# Altium footprint library Capatitor.PcbLib: 27 footprints (part 2 of 2)
Each footprint in its own frame and in the unit in brackets; x right, y up, seen from the top. Pads: shape width x height; smd on the part's side, far side on the other; paste and mask are expansions set on the pad; w line width, h text height; cw(c..) or ccw(c..) is an arc to the next point about the centre after c.
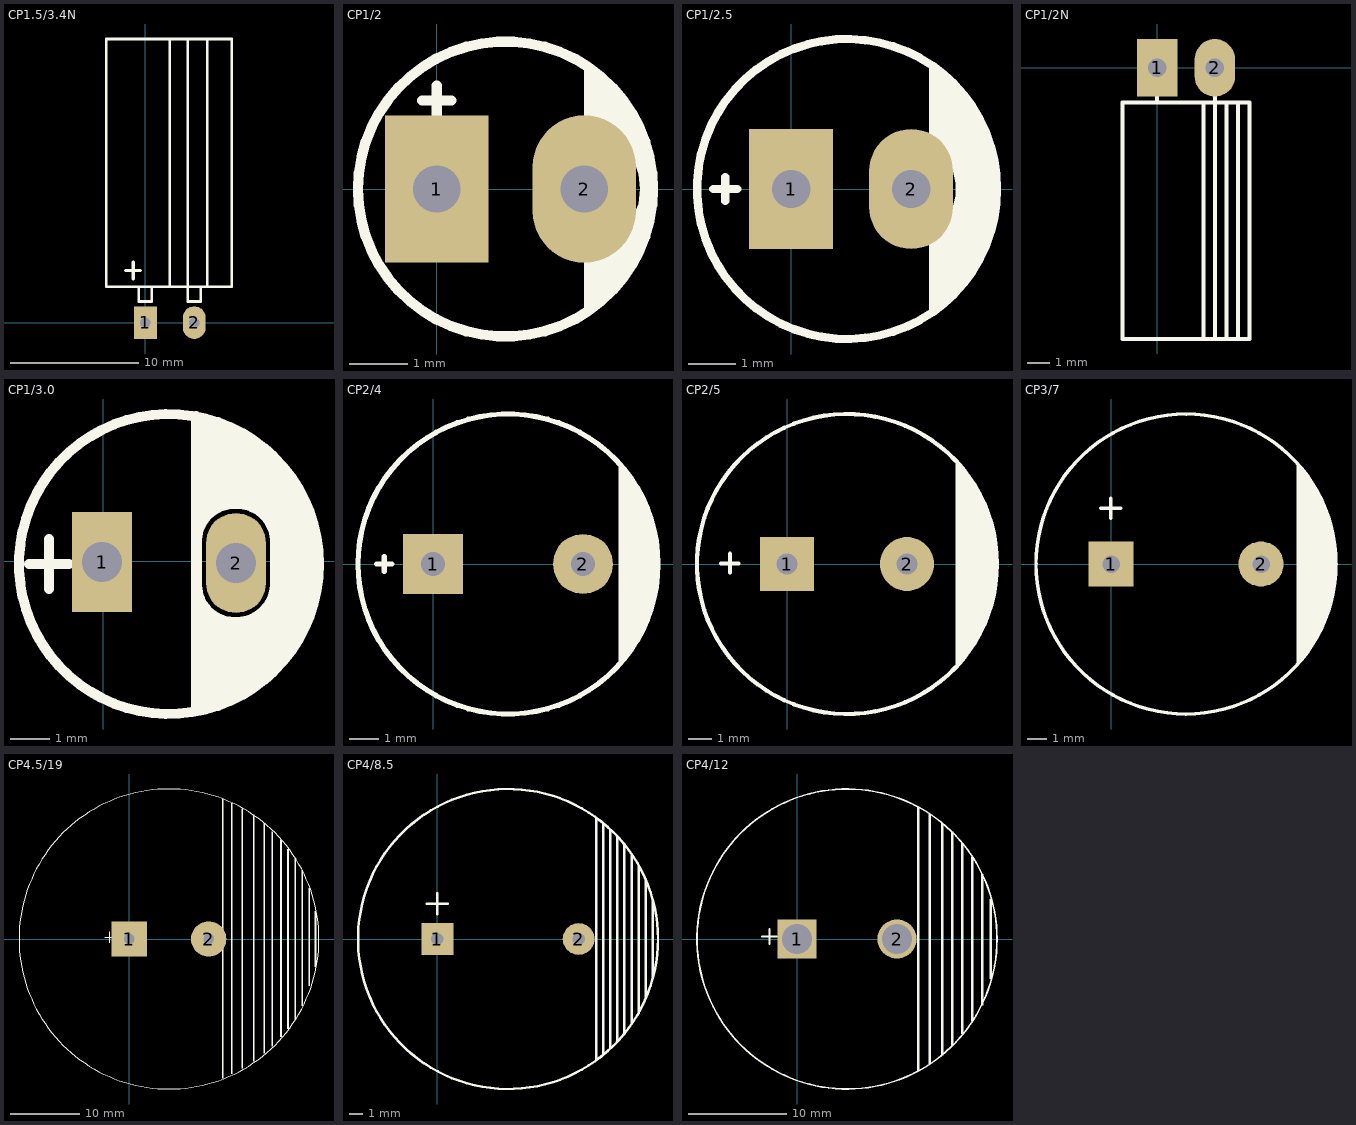
[diagram p1: the footprints below, top view; thin cyan lines are the x and y axes]

## CP1.5/3.4N [mil] "Tu hoa 220->470uF,16V, 470uF/16V,25V"
height 300
pads (2):
  rect 70x100 hole 32: 1(0,0)
  oval 70x100 hole 32: 2(150,0)
Top Overlay:
  lines w8: -20,110 -20,65 20,65 20,105 ; 75,110 75,870 ; 130,870 130,110 130,65 170,65 170,105 ; 190,110 190,870 ; -120,110 265,110 265,870 -120,870 -120,110
  lines w10: -60,160 -15,160 ; -37,135 -37,185

## CP1/2 [mil]
height 200
pads (2):
  rect 70x100 hole 32: 1(0,0)
  oval 70x100 hole 32: 2(100,0)
Top Overlay:
  circle w7: c46.58,0 r100
  region: 100,84 100,38 112,36 122,32 129,27 134,19 137,10 138,0 137,-10 134,-17 129,-24 123,-31 117,-35 107,-38 100,-38 100,-85 108,-78 120,-69 128,-59 137,-44 144,-19 146,9 139,40 127,60 110,79
  lines w7: -10,60 10,60 ; 0,50 0,70
3D body "User Library-Cap electro 5x7x2mm.STEP": height 296.28, standoff -128.81, extent -54.43,-98.85 144.43,100

## CP1/2.5 [mil] "Tu hoa 33 >100 uF,50V, 220uF/16V,25V"
height 300
pads (2):
  rect 70x100 hole 32: 1(0,0)
  oval 70x100 hole 32: 2(100,0)
Top Overlay:
  circle w7: c46.58,0 r125
  region: 115,105 115,36 122,31 129,25 133,20 135,15 137,5 137,-6 135,-14 132,-19 128,-24 124,-28 120,-31 115,-34 115,-107 124,-99 139,-86 152,-69 167,-36 171,-15 171.58,0 167,30 153,67 131,93
  lines w7: -65,0 -45,0 ; -55,-10 -55,-5 -55,5 -55,10
3D body "User Library-Cap 6_3x11.STEP": height 421.54, standoff -759.57, extent -76,-124.03 172.03,124

## CP1/2N [mil] "Tu hoa < 22uF/16>50V"
height 300
pads (2):
  rect 70x100 hole 32: 1(0,0)
  oval 70x100 hole 32: 2(100,0)
Top Overlay:
  lines w7: 0,-60 0,-45 ; 80,-470 80,-60 ; 100,-470 100,-60 100,-45 ; 120,-470 120,-60 ; 140,-470 140,-60 ; -60,-470 -60,-60 160,-60 160,-470 -60,-470
3D body "User Library-Cap electro 5x7x2mm RA.STEP": height 199.43, standoff -136.22, extent -54.42,-351.27 144.43,15.7

## CP1/3.0 [mil]
pads (2):
  rect 60x100 hole 40: 1(-1,-1)
  oval 60x100 hole 40: 2(133,-2)
Top Overlay:
  circle w10: c66,-3 r150
  region: 93,146 93,37 121,58 143,58 165,42 174,-3 166,-43 141,-62 106,-53 92,-36 93,-150 152,-128 208,-60 216,16 185,93 139,129
  lines w10: -74,-3 -34,-3 ; -54,-28 -54,22 ; 93,-147 93,145 ; 94,-27 94,22 cw(c131.5,19.5) 131.01,57.08 ; 94,-25 ccw(c131.5,-23.5) 133,-61 ccw(c133.5,-22.5) 172,-23 ; 131,57 cw(c134,19) 172,22 ; 172,-30 172,25
3D body "User Library-CAP 8X11_5.STEP": height 475.89, standoff -724.41, extent -90,-161.48 224.96,153.48

## CP2/4 [mil] "Tu hoa 1000uF/16V/25V"
height 400
pads (2):
  rect 80x80 hole 32: 1(0,0)
  round 80 hole 32: 2(200,0)
Top Overlay:
  circle w7: c100,0 r200
  region: 248,133 248,-134 262,-117 274,-97 284,-81 293,-55 299,-21 298,21 296,46 281,85 258,122
  lines w7: -75,0 -55,0 ; -65,-10 -65,10

## CP2/5 [mil] "Tu hoa 1000uF/25V,50V"
height 600
pads (2):
  rect 90x90 hole 35: 1(0,0)
  round 90 hole 35: 2(200,0)
Top Overlay:
  circle w7: c100,0 r250
  region: 281,174 281,-175 300,-149 301,-151 318,-124 334,-90 349,-29 350,0 348,34 341,70 321,116
  lines w7: -110,1 -81,1 ; -95,-14 -95,17
3D body "User Library-Cap12_5x25.STEP": height 984.37, standoff -747.43, extent -142.12,-246.06 350,246.06

## CP3/7 [mil] "Tu hoa 4700uF/25V"
height 600
pads (2):
  rect 90x90 hole 35: 1(0,0)
  round 90 hole 35: 2(300,0)
Top Overlay:
  circle w7: c150,0 r300
  region: 425,112 433,96 442,79 447,39 450,-9 449,-34 442,-69 429,-115 397,-171 382,-191 371,-203 371,200 384.5,182.5 395,168 408,153
  lines w7: -21,112 19,112 ; -1,92 -1,132
3D body "User Library-HE Series 18X15.STEP": height 590.55, standoff -98.43, extent -201.33,-353 507.33,355.66

## CP4.5/19 [mil] "Tu hoa 10,000uF/63V"
height 600
pads (2):
  rect 200x200 hole 60: 1(0,0)
  round 200 hole 60: 2(450,0)
Top Overlay:
  circle w7: c225,0 r850
  rectangle: 525,-790 535,795
  rectangle: 575,-765 585,770
  rectangle: 635,-735 645,740
  rectangle: 700,-695 710,705
  rectangle: 1050,-160 1060,160
  rectangle: 1015,-265 1025,290
  rectangle: 760,-650 770,655
  rectangle: 805,-610 815,610
  rectangle: 855,-555 865,560
  rectangle: 895,-510 905,510
  rectangle: 935,-455 945,455
  rectangle: 975,-380 985,390
  lines w7: -140,10 -80,10 ; -110,-20 -110,40

## CP4/8.5 [mil] "Tu hoa 4700uF/50V"
height 600
pads (2):
  rect 90x90 hole 35: 1(0,0)
  round 90 hole 35: 2(400,0)
Top Overlay:
  circle w7: c200,0 r425
  lines w7: -30,100 30,100 ; 0,70 0,130 ; 450,-340 450,340 ; 470,-325 470,325 ; 490,-310 490,310 ; 510,-290 510,290 ; 530,-265 530,265 ; 550,-240 550,240 ; 570,-210 570,205 ; 590,-165 590,170
  lines w8: 610,-110 610,110
3D body "User Library-ECEC2DP271BJ.STEP": height 984.25, standoff 0, extent -236.14,-438.07 630,428.07

## CP4/12 [mm] "Tu hoa 220uF/450V"
height 15.24
pads (2):
  rect 4x4 hole 3: 1(0,0)
  round 4 hole 3: 2(10.16,0)
Top Overlay:
  circle w0.178: c5.08,0 r15.24
  rectangle: 17.653,-8.382 17.907,8.382
  rectangle: 16.637,-9.652 16.891,9.779
  rectangle: 15.621,-10.795 15.875,10.922
  rectangle: 14.605,-11.811 14.859,11.811
  rectangle: 13.335,-12.7 13.589,12.7
  rectangle: 12.192,-13.462 12.446,13.462
  rectangle: 18.669,-6.731 18.923,6.604
  rectangle: 19.558,-4.064 19.812,4.064
  lines w0.178: -3.556,0.254 -2.032,0.254 ; -2.794,-0.508 -2.794,1.016